# Altium footprint library HMC.PcbLib: 1 footprints
Each footprint in its own frame and in the unit in brackets; x right, y up, seen from the top. Pads: shape width x height; smd on the part's side, far side on the other; paste and mask are expansions set on the pad; w line width, h text height; cw(c..) or ccw(c..) is an arc to the next point about the centre after c.
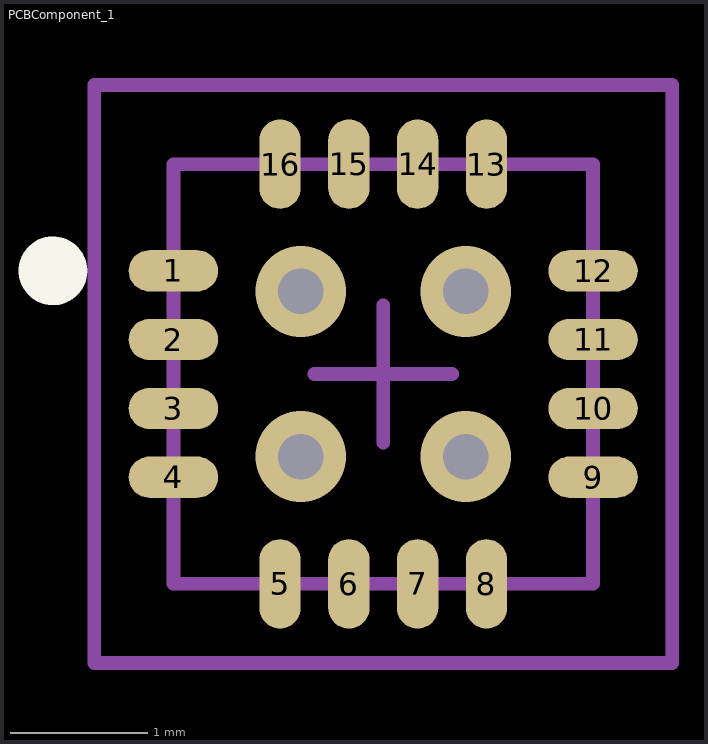
[diagram p0: the footprint, top view; thin cyan lines are the x and y axes]

## PCBComponent_1 [mm]
pads (16):
  oval 0.65x0.3 smd: 1(-860.807,-928.763) 2(-860.807,-929.263) 3(-860.807,-929.763) 4(-860.807,-930.263) 9(-857.757,-930.263) 10(-857.757,-929.763) 11(-857.757,-929.263) 12(-857.757,-928.763)
  oval 0.3x0.65 smd: 5(-860.032,-931.038) 6(-859.532,-931.038) 7(-859.032,-931.038) 8(-858.532,-931.038) 13(-858.532,-927.988) 14(-859.032,-927.988) 15(-859.532,-927.988) 16(-860.032,-927.988)
via -858.682,-930.113 diameter 0.66 hole 0.33
via -859.882,-930.113 diameter 0.66 hole 0.33
via -858.682,-928.913 diameter 0.66 hole 0.33
via -859.882,-928.913 diameter 0.66 hole 0.33
Top Overlay:
  circle w0.25: c-861.682,-928.763 r0.125
Mechanical 13:
  lines w0.1: -860.807,-931.038 -857.757,-931.038 -857.757,-927.988 -860.807,-927.988 -860.807,-931.038
Mechanical 15:
  lines w0.1: -859.782,-929.513 -858.782,-929.513 ; -859.282,-930.013 -859.282,-929.013 ; -861.382,-931.613 -857.182,-931.613 -857.182,-927.413 -861.382,-927.413 -861.382,-931.613